# Altium footprint library PCB1.PcbLib: 57 footprints (part 2 of 4)
Each footprint in its own frame and in the unit in brackets; x right, y up, seen from the top. Pads: shape width x height; smd on the part's side, far side on the other; paste and mask are expansions set on the pad; w line width, h text height; cw(c..) or ccw(c..) is an arc to the next point about the centre after c.
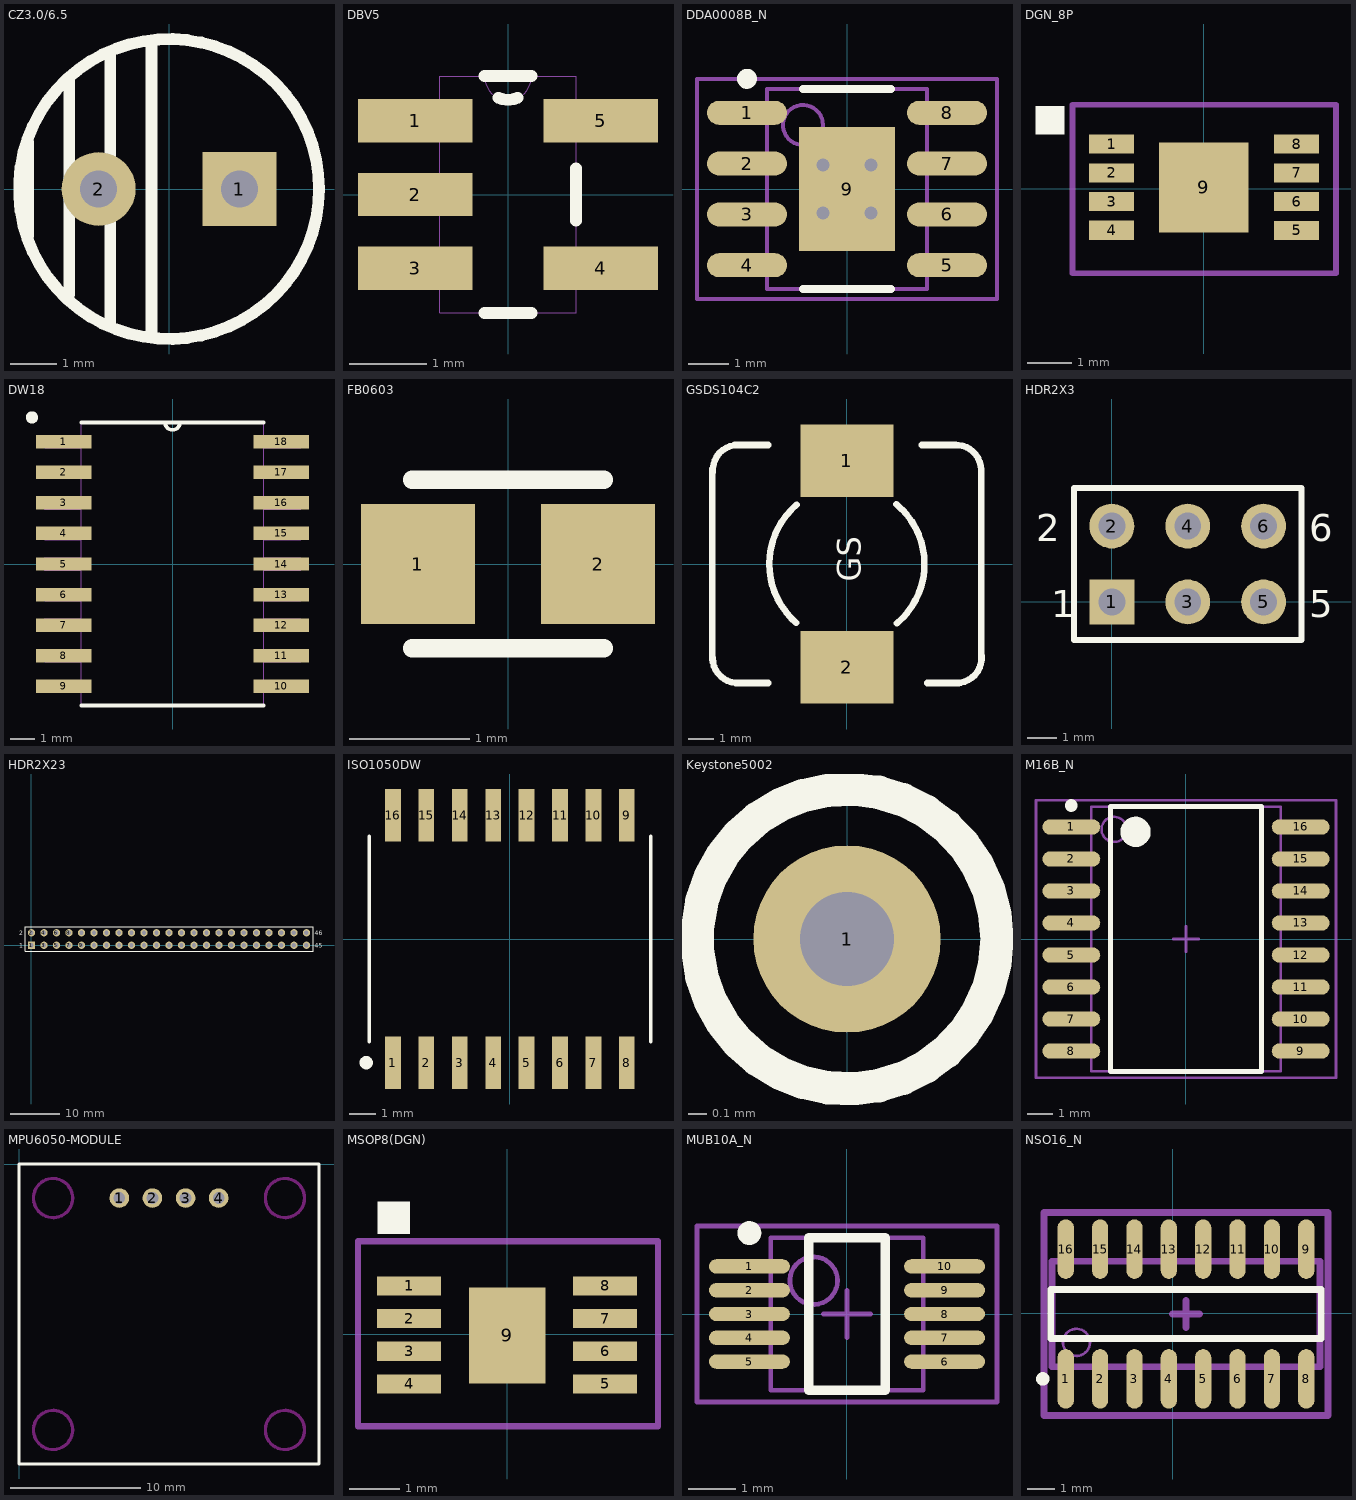
[diagram p1: the footprints below, top view; thin cyan lines are the x and y axes]

## CZ3.0/6.5 [mm]
height 12.7
pads (2):
  rect 1.6x1.6 hole 0.8: 1(1.524,0)
  round 1.6 hole 0.8: 2(-1.524,0)
Top Overlay:
  circle w0.254: c0,0 r3.25
  lines w0.254: -3.048,-1.016 -3.048,1.016 ; -2.159,-2.286 -2.159,2.413 ; -1.27,-2.921 -1.27,2.921 ; -0.381,-3.175 -0.381,3.175

## DBV5 [mil]
pads (5):
  rect 58x22 smd: 1(-47,37.4) 2(-47,0) 3(-47,-37.4) 4(47,-37.4) 5(47,37.4)
Top Overlay:
  lines w6: -11.91,-60 11.91,-60 ; -11.91,60 11.91,60 ; -4.92,49.05 ccw(c0,60) 4.92,49.05 ; 34.5,-13.3 34.5,13.3
Mechanical 1:
  lines w0: -12,60 ccw(c0,60) 12,60 ; -59,-47.4 -34.5,-47.4 -34.5,-27.4 -59,-27.4 -59,-47.4 ; -59,-10 -34.5,-10 -34.5,10 -59,10 -59,-10 ; -59,27.4 -34.5,27.4 -34.5,47.4 -59,47.4 -59,27.4 ; -34.5,-60 -34.5,60 34.5,60 34.5,-60 -34.5,-60 ; 34.5,-47.4 59,-47.4 59,-27.4 34.5,-27.4 34.5,-47.4 ; 34.5,27.4 59,27.4 59,47.4 34.5,47.4 34.5,27.4

## DDA0008B_N [mm] "SOIC, 8-Leads, Body 4.9x3.9mm, Pitch 1.27mm, Exposed Pad, IPC Medium Density"
height 1.68
pads (9):
  oval 2x0.6 smd: 1(-2.5,1.905) 2(-2.5,0.635) 3(-2.5,-0.635) 4(-2.5,-1.905) 5(2.5,-1.905) 6(2.5,-0.635) 7(2.5,0.635) 8(2.5,1.905)
  rect 2.41x3.1 smd: 9(0,0)
via -0.6,0.6 diameter 0.66 hole 0.33
via 0.6,0.6 diameter 0.66 hole 0.33
via 0.6,-0.6 diameter 0.66 hole 0.33
via -0.6,-0.6 diameter 0.66 hole 0.33
Top Overlay:
  circle w0.25: c-2.5,2.755 r0.125
  lines w0.2: -1.1,-2.5 1.1,-2.5 ; -1.1,2.5 1.1,2.5
Mechanical 5:
  circle w0.1: c-1.1,1.6 r0.5
  lines w0.1: -2,-2.5 -2,2.5 2,2.5 2,-2.5 -2,-2.5
Mechanical 15:
  lines w0.1: -0.5,0 0.5,0 ; 0,-0.5 0,0.5 ; -3.75,-2.75 -3.75,2.75 3.75,2.75 3.75,-2.75 -3.75,-2.75
3D body: height 1.68, standoff 0.03, extent -2,-2.5 2,2.5

## DGN_8P [mil]
pads (9):
  rect 40x17 smd: 1(-82.1,40) 2(-82.1,14.4) 3(-82.1,-11.2) 4(-82.1,-36.8) 5(82.9,-36.9) 6(82.9,-11.3) 7(82.9,14.3) 8(82.9,40)
  rect 80x80 smd: 9(0.2,1.4)
Top Overlay:
  region: -149.5,74 -124.5,74 -124.5,49 -149.5,49
Mechanical 5:
  lines w5: -117,-75 118,-75 118,75 -117,75 -117,-75

## DW18 [mil]
pads (18):
  rect 91x22 smd: 1(-178,200) 2(-178,150) 3(-178,100) 4(-178,50) 5(-178,0) 6(-178,-50) 7(-178,-100) 8(-178,-150) 9(-178,-200) 10(178,-200) 11(178,-150) 12(178,-100) 13(178,-50) 14(178,0) 15(178,50) 16(178,100) 17(178,150) 18(178,200)
Top Overlay:
  circle w10: c-230,240 r5
  lines w6: -149.5,-231.5 149.5,-231.5 ; -149.5,231.5 149.5,231.5 ; -12,231.5 ccw(c0,231.5) 12,231.5
Mechanical 1:
  lines w0: -12,231.5 ccw(c0,231.5) 12,231.5 ; -209.5,-210 -149.5,-210 -149.5,-190 -209.5,-190 -209.5,-210 ; -209.5,-160 -149.5,-160 -149.5,-140 -209.5,-140 -209.5,-160 ; -209.5,-110 -149.5,-110 -149.5,-90 -209.5,-90 -209.5,-110 ; -209.5,-60 -149.5,-60 -149.5,-40 -209.5,-40 -209.5,-60 ; -209.5,-10 -149.5,-10 -149.5,10 -209.5,10 -209.5,-10 ; -209.5,40 -149.5,40 -149.5,60 -209.5,60 -209.5,40 ; -209.5,90 -149.5,90 -149.5,110 -209.5,110 -209.5,90 ; -209.5,140 -149.5,140 -149.5,160 -209.5,160 -209.5,140 ; -209.5,190 -149.5,190 -149.5,210 -209.5,210 -209.5,190 ; -149.5,-231.5 -149.5,231.5 149.5,231.5 149.5,-231.5 -149.5,-231.5 ; 149.5,-210 209.5,-210 209.5,-190 149.5,-190 149.5,-210 ; 149.5,-160 209.5,-160 209.5,-140 149.5,-140 149.5,-160 ; 149.5,-110 209.5,-110 209.5,-90 149.5,-90 149.5,-110 ; 149.5,-60 209.5,-60 209.5,-40 149.5,-40 149.5,-60 ; 149.5,-10 209.5,-10 209.5,10 149.5,10 149.5,-10 ; 149.5,40 209.5,40 209.5,60 149.5,60 149.5,40 ; 149.5,90 209.5,90 209.5,110 149.5,110 149.5,90 ; 149.5,140 209.5,140 209.5,160 149.5,160 149.5,140 ; 149.5,190 209.5,190 209.5,210 149.5,210 149.5,190

## FB0603 [mm]
height 0.95
pads (2):
  rect 0.95x1 smd: 1(-0.75,0) 2(0.75,0)
Top Overlay:
  lines w0.152: -0.8,-0.703 0.8,-0.703 ; -0.8,0.703 0.8,0.703
Mechanical 15:
  lines w0.025: -0.8,-0.4 -0.8,0.4 ; 0.8,-0.4 0.8,0.4
  lines w0.1: -0.8,-0.4 -0.8,0.4

## GSDS104C2 [mm]
height 4
pads (2):
  rect 3.6x2.8 smd: 1(0,4) 2(0,-4)
Top Overlay:
  lines w0.254: -5.2,-3.708 -5.2,3.683 ; -5.189,-3.632 ccw(c-4.221,-3.632) -4.14,-4.597 ; -5.181,3.549 cw(c-4.216,3.629) -4.216,4.597 ; -4.343,4.6 -3.047,4.6 ; -4.293,-4.6 -3.047,-4.6 ; -1.951,-2.279 cw(c0,0) -1.933,2.294 ; 1.913,2.311 cw(c0,0) 1.932,-2.295 ; 2.896,4.6 4.216,4.6 ; 3.101,-4.6 4.318,-4.6 ; 4.14,4.597 cw(c4.221,3.632) 5.189,3.632 ; 4.242,-4.597 ccw(c4.242,-3.629) 5.207,-3.549 ; 5.2,-3.708 5.2,0 ; 5.2,-0.102 5.2,3.683
  text "GS" at 0.54,-0.68 h0.9

## HDR2X3 [mm] "Connector; Header; 3x2 Position"
pads (6):
  rect 1.5x1.5 hole 0.9: 1(0,0)
  round 1.5 hole 0.9: 2(0,2.54) 3(2.54,0) 4(2.54,2.54) 5(5.08,0) 6(5.08,2.54)
Top Overlay:
  lines w0.2: 1.482,-1.27 6.35,-1.27 ; 6.35,-1.27 -1.27,-1.27 -1.27,3.81 6.35,3.81 6.35,-1.27
  text "1" at -2.032,-0.508 h0.9
  text "2" at -2.54,2.032 h0.9
  text "5" at 6.604,-0.508 h0.9
  text "6" at 6.604,2.032 h0.9

## HDR2X23 [mm] "Connector; Header; 23x2 Position"
pads (46):
  rect 1.5x1.5 hole 0.9: 1(0,0)
  round 1.5 hole 0.9: 2(0,2.54) 3(2.54,0) 4(2.54,2.54) 5(5.08,0) 6(5.08,2.54) 7(7.62,0) 8(7.62,2.54) 9(10.16,0) 10(10.16,2.54) 11(12.7,0) 12(12.7,2.54) 13(15.24,0) 14(15.24,2.54) 15(17.78,0) 16(17.78,2.54) 17(20.32,0) 18(20.32,2.54) 19(22.86,0) 20(22.86,2.54) 21(25.4,0) 22(25.4,2.54) 23(27.94,0) 24(27.94,2.54) 25(30.48,0) 26(30.48,2.54) 27(33.02,0) 28(33.02,2.54) 29(35.56,0) 30(35.56,2.54) 31(38.1,0) 32(38.1,2.54) 33(40.64,0) 34(40.64,2.54) 35(43.18,0) 36(43.18,2.54) 37(45.72,0) 38(45.72,2.54) 39(48.26,0) 40(48.26,2.54) 41(50.8,0) 42(50.8,2.54) 43(53.34,0) 44(53.34,2.54) 45(55.88,0) 46(55.88,2.54)
Top Overlay:
  lines w0.2: -1.27,-1.27 57.277,-1.27 57.277,3.81 -1.27,3.81 -1.27,-1.27
  text "2" at -2.54,2.032 h0.9
  text "1" at -2.54,-0.508 h0.9
  text "46" at 57.531,2.032 h0.9
  text "45" at 57.531,-0.508 h0.9

## ISO1050DW [mm] "IC TXRX ISOLATED CAN 5V 16SOIC"
height 2.65
pads (16):
  rect 0.6x2 smd: 1(-4.445,-4.7) 2(-3.175,-4.7) 3(-1.905,-4.7) 4(-0.635,-4.7) 5(0.635,-4.7) 6(1.905,-4.7) 7(3.175,-4.7) 8(4.445,-4.7) 9(4.445,4.7) 10(3.175,4.7) 11(1.905,4.7) 12(0.635,4.7) 13(-0.635,4.7) 14(-1.905,4.7) 15(-3.175,4.7) 16(-4.445,4.7)
Top Overlay:
  circle w0.254: c-5.461,-4.699 r0.127
  lines w0.127: -5.35,-3.9 -5.35,3.9 ; 5.35,-3.9 5.35,3.9
3D body: height 2.66, standoff 2.65, extent -4.798,-3.2 -4.201,-2.601
3D body: height 2.65, standoff 0, extent -5.25,-3.8 5.25,3.8

## Keystone5002 [mm] "For Keystone 500x miniature loop terminals"
height 4.6
pads (1):
  round 1 hole 0.5: 1(0,0)
Top Overlay:
  circle w0.178: c0,0 r0.8
Mechanical 5:
  circle w0.127: c0,0 r0.8

## M16B_N [mm] "SOIC, 16-Leads, Body 10.3x7.5mm, Pitch 1.27mm, IPC Medium Density"
height 2.65
pads (16):
  oval 2.3x0.6 smd: 1(-4.55,4.445) 2(-4.55,3.175) 3(-4.55,1.905) 4(-4.55,0.635) 5(-4.55,-0.635) 6(-4.55,-1.905) 7(-4.55,-3.175) 8(-4.55,-4.445) 9(4.55,-4.445) 10(4.55,-3.175) 11(4.55,-1.905) 12(4.55,-0.635) 13(4.55,0.635) 14(4.55,1.905) 15(4.55,3.175) 16(4.55,4.445)
Top Overlay:
  circle w0.6: c-2,4.25 r0.3
  circle w0.25: c-4.55,5.295 r0.125
  lines w0.2: -3,-5.25 3,-5.25 3,5.25 -3,5.25 -3,-5.25
Mechanical 13:
  circle w0.1: c-2.85,4.35 r0.5
  lines w0.1: -3.75,-5.25 3.75,-5.25 3.75,5.25 -3.75,5.25 -3.75,-5.25
Mechanical 15:
  lines w0.1: -0.5,0 0.5,0 ; 0,-0.5 0,0.5 ; -5.95,-5.5 5.95,-5.5 5.95,5.5 -5.95,5.5 -5.95,-5.5
3D body: height 2.65, standoff 0, extent -3.75,-5.25 3.75,5.25

## MPU6050-MODULE [mm]
pads (4):
  round 1.5 hole 0.9: 1(7.69,-2.61) 2(10.23,-2.61) 3(12.77,-2.61) 4(15.31,-2.61)
Top Overlay:
  lines w0.254: 0,-23 23,-23 23,0 0,0 0,-23
Keep-Out Layer:
  circle w0.254: c20.39,-20.39 r1.5
  circle w0.254: c2.61,-20.39 r1.5
  circle w0.254: c20.39,-2.61 r1.5
  circle w0.254: c2.61,-2.61 r1.5

## MSOP8(DGN) [mil]
pads (9):
  rect 50x15 smd: 1(-77,38) 2(-77,12.4) 3(-77,-13.2) 4(-77,-38.8) 5(76.6,-38.8) 6(76.6,-13.2) 7(76.6,12.4) 8(76.6,38)
  rect 60x75 smd: 9(0,-0.8)
Top Overlay:
  region: -101.5,104 -76.5,104 -76.5,79 -101.5,79
  region: -101.5,104 -76.5,104 -76.5,79 -101.5,79
Mechanical 5:
  lines w5: -117,-72 -117,73 118,73 118,-72 -117,-72

## MUB10A_N [mm] "TSSOP, 10-Leads, Body 3x3mm, Pitch 0.5mm, IPC Medium Density"
height 1.09
pads (10):
  oval 1.7x0.3 smd: 1(-2.05,1) 2(-2.05,0.5) 3(-2.05,0) 4(-2.05,-0.5) 5(-2.05,-1) 6(2.05,-1) 7(2.05,-0.5) 8(2.05,0) 9(2.05,0.5) 10(2.05,1)
Top Overlay:
  circle w0.25: c-2.05,1.7 r0.125
  lines w0.2: -0.8,-1.6 0.8,-1.6 0.8,1.6 -0.8,1.6 -0.8,-1.6
Mechanical 13:
  circle w0.1: c-0.7,0.7 r0.5
  lines w0.1: -1.6,-1.6 1.6,-1.6 1.6,1.6 -1.6,1.6 -1.6,-1.6
Mechanical 15:
  lines w0.1: -0.5,0 0.5,0 ; 0,-0.5 0,0.5 ; -3.15,-1.85 3.15,-1.85 3.15,1.85 -3.15,1.85 -3.15,-1.85
3D body: height 1.09, standoff 0, extent -1.6,-1.6 1.6,1.6

## NSO16_N [mm]
height 1.6
pads (16):
  oval 0.6x2.2 smd: 1(-3.957,-2.43) 2(-2.687,-2.43) 3(-1.417,-2.43) 4(-0.147,-2.43) 5(1.123,-2.43) 6(2.393,-2.43) 7(3.663,-2.43) 8(4.933,-2.43) 9(4.933,2.37) 10(3.663,2.37) 11(2.393,2.37) 12(1.123,2.37) 13(-0.147,2.37) 14(-1.417,2.37) 15(-2.687,2.37) 16(-3.957,2.37)
Top Overlay:
  circle w0.25: c-4.807,-2.43 r0.125
  lines w0.254: -4.512,-0.93 -4.512,0.87 5.488,0.87 5.488,-0.93 -4.512,-0.93
Mechanical 13:
  circle w0.1: c-3.562,-1.08 r0.5
  lines w0.254: -4.462,-1.98 -4.462,1.92 5.438,1.92 5.438,-1.98 -4.462,-1.98
Mechanical 15:
  lines w0.254: -0.012,-0.03 0.988,-0.03 ; 0.488,-0.53 0.488,0.47 ; -4.762,-3.78 -4.762,3.72 5.738,3.72 5.738,-3.78 -4.762,-3.78
3D body: height 1.75, standoff 0, extent -4.462,-1.98 5.438,1.92